# EAGLE library part JST-ZH6 (library controller)
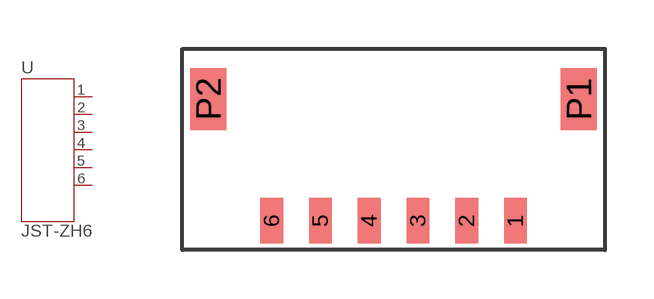
[diagram p6: symbol with the pads of JST_S6B-ZR-SM4A-TF(LF)(SN); footprint JST_S6B-ZR-SM4A-TF(LF)(SN)]

Designator prefix -

## JST-ZH6  [JST_S6B-ZR-SM4A-TF(LF)(SN)]
1  1  pas
2  2  pas
3  3  pas
4  4  pas
5  5  pas
6  6  pas

## Footprint JST_S6B-ZR-SM4A-TF(LF)(SN) (pad centres in mm)
smd 0.7 x 1.4: 1 3.75,0; 2 2.25,0; 3 0.75,0; 4 -0.75,0; 5 -2.25,0; 6 -3.75,0
smd 1.1 x 1.9: P1 5.7,3.75; P2 -5.7,3.75